# Altium footprint library WURTH_760390013.PcbLib: 1 footprints
Each footprint in its own frame and in the unit in brackets; x right, y up, seen from the top. Pads: shape width x height; smd on the part's side, far side on the other; paste and mask are expansions set on the pad; w line width, h text height; cw(c..) or ccw(c..) is an arc to the next point about the centre after c.
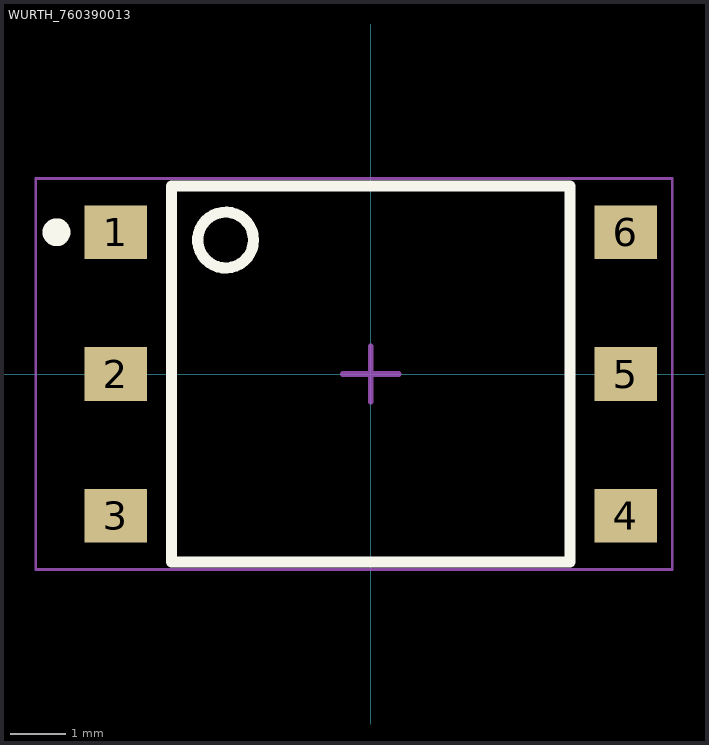
[diagram p0: the footprint, top view; thin cyan lines are the x and y axes]

## WURTH_760390013 [mm]
height 4.19
pads (6):
  rect 1.12x0.96 smd: 1(-4.57,2.54) 2(-4.57,0) 3(-4.57,-2.54) 4(4.57,-2.54) 5(4.57,0) 6(4.57,2.54)
Top Overlay:
  circle w0.3: c-5.63,2.54 r0.1
  circle w0.2: c-2.6,2.4 r0.5
  lines w0.2: -3.57,-3.365 3.57,-3.365 3.57,3.365 -3.57,3.365 -3.57,-3.365
Mechanical 13:
  circle w0.1: c-2.6,2.4 r0.5
  lines w0.1: -3.57,-3.365 3.57,-3.365 3.57,3.365 -3.57,3.365 -3.57,-3.365
Mechanical 15:
  lines w0.05: -6,-3.5 -6,3.5 5.4,3.5 5.4,-3.5 -6,-3.5
  lines w0.1: -0.5,0 0.5,0 ; 0,-0.5 0,0.5
3D body "WURTH_760390013.STEP": height 4.06, standoff 0, extent -5.005,-3.24 4.955,3.24